# Altium schematic symbol library Heat-Sinks.SchLib: 8 symbols
Pins are listed as number, name and electrical type; pins without a type are passive.

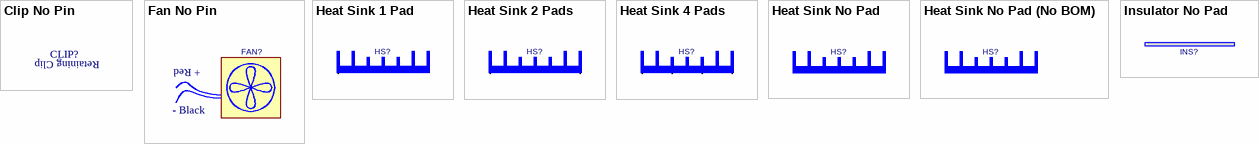
[diagram p0: symbols Clip No Pin to Insulator No Pad]

## Clip No Pin
designator CLIP?
Retaining Clip for Semiconductors
text: Retaining Clip

## Fan No Pin
designator FAN?  (value not drawn)
Fan
text: + Red; - Black

## Heat Sink 1 Pad
designator HS?  (value not drawn)
Heat Sink With 1 or more pad
pins: 1

## Heat Sink 2 Pads
designator HS?  (value not drawn)
Heat Sink With 2 pads
pins: 1, 2

## Heat Sink 4 Pads
designator HS?  (value not drawn)
Heat Sink With 4 pads
pins: 1, 2, 3, 4

## Heat Sink No Pad
designator HS?  (value not drawn)
Heat Sink Without Pad

## Heat Sink No Pad (No BOM)
designator HS?  (value not drawn)  (no BOM)
Heat Sink Without Pad

## Insulator No Pad
designator INS?  (value not drawn)
Insulator Without Pad